# Altium footprint library V300LA4P.PcbLib: 1 footprints
Each footprint in its own frame and in the unit in brackets; x right, y up, seen from the top. Pads: shape width x height; smd on the part's side, far side on the other; paste and mask are expansions set on the pad; w line width, h text height; cw(c..) or ccw(c..) is an arc to the next point about the centre after c.
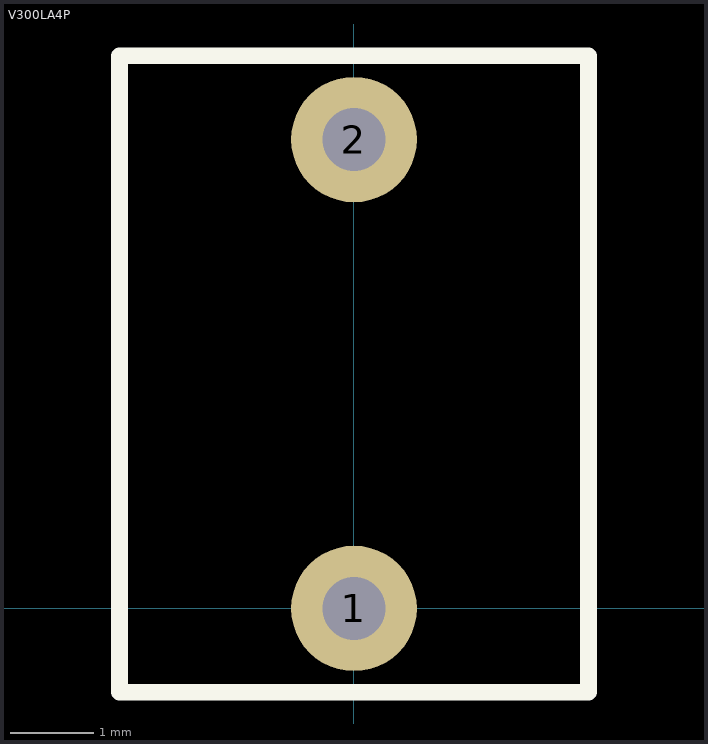
[diagram p0: the footprint, top view; thin cyan lines are the x and y axes]

## V300LA4P [mm] "300VAC 1.2kA Varistor"
pads (2):
  round 1.5 hole 0.75: 1(0,0) 2(0,5.6)
Top Overlay:
  lines w0.2: -2.8,-1 2.8,-1 2.8,6.6 -2.8,6.6 -2.8,-1
3D body: height 7, standoff -2, extent -0.299,5.265 0.299,5.863
3D body: height 7, standoff -2, extent -0.299,-0.298 0.299,0.3
3D body: height 10.49, standoff 2.51, extent -1.501,-1.216 1.499,6.753